# Altium footprint library PCC-SMP-K.PcbLib: 1 footprints
Each footprint in its own frame and in the unit in brackets; x right, y up, seen from the top. Pads: shape width x height; smd on the part's side, far side on the other; paste and mask are expansions set on the pad; w line width, h text height; cw(c..) or ccw(c..) is an arc to the next point about the centre after c.
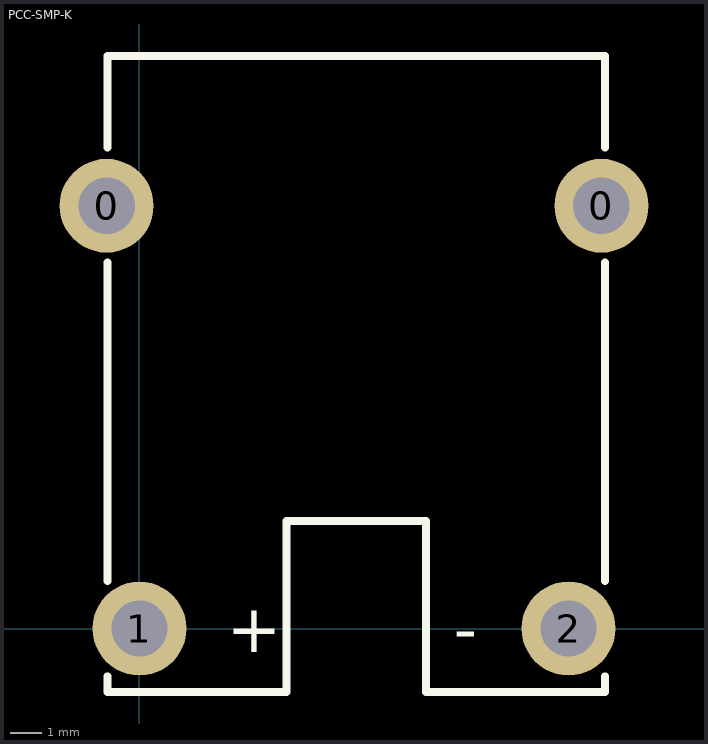
[diagram p0: the footprint, top view; thin cyan lines are the x and y axes]

## PCC-SMP-K [mm] "Mini thermocouple connector"
height 6.3
pads (4):
  round 3 hole 1.8: 0(-1.05,13.5) 0(14.75,13.5) 1(0,0) 2(13.7,0)
Top Overlay:
  lines w0.254: -1.016,-1.524 -1.016,-2.032 4.699,-2.032 4.699,3.429 9.144,3.429 9.144,-2.032 14.859,-2.032 14.859,-1.524 ; -1.016,1.524 -1.016,11.684 ; -1.016,15.367 -1.016,18.288 14.859,18.288 14.859,15.367 ; 14.859,1.524 14.859,11.684
  text "-" at 10.033,-0.762 h1.52
  text "+" at 2.794,-0.762 h1.52
3D body: height 6.3, standoff 0, extent -1.143,-2.159 14.986,18.415